# EAGLE library part DAC104S (library texas-instruments)
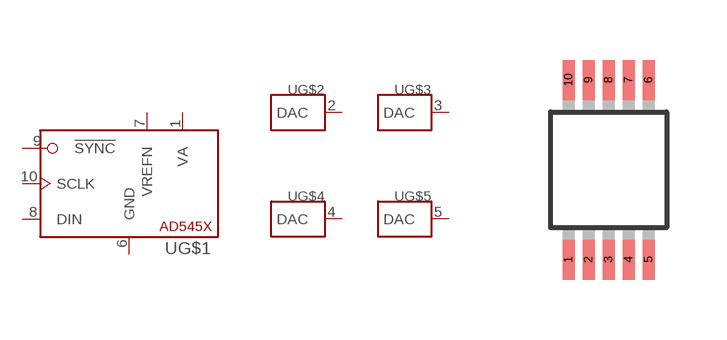
[diagram p30: symbol with the pads of MSOP10; footprint MSOP10]

Designator prefix U; gates G$1=DAC104S G$2=DAC_CH G$3=DAC_CH G$4=DAC_CH G$5=DAC_CH

## DAC104S (DIGIKEY: AD5451YUJZ-REEL7CT-ND; P1I: o)  [MSOP10]
1  G$1:VA
2  G$2:DAC
3  G$3:DAC
4  G$4:DAC
5  G$5:DAC
6  G$1:GND
7  G$1:VREFN
8  G$1:DIN
9  G$1:!SYNC
10  G$1:SCLK

## Footprint MSOP10 (pad centres in mm)
10-Lead microSOIC (RM-10) 10-µSOIC
smd 0.3 x 1: 1 -1,-2.25; 2 -0.5,-2.25; 3 0,-2.25; 4 0.5,-2.25; 5 1,-2.25; 6 1,2.25; 7 0.5,2.25; 8 0,2.25; 9 -0.5,2.25; 10 -1,2.25